# Altium footprint library XCVR_MAX-M10S-00B.PcbLib: 1 footprints
Each footprint in its own frame and in the unit in brackets; x right, y up, seen from the top. Pads: shape width x height; smd on the part's side, far side on the other; paste and mask are expansions set on the pad; w line width, h text height; cw(c..) or ccw(c..) is an arc to the next point about the centre after c.
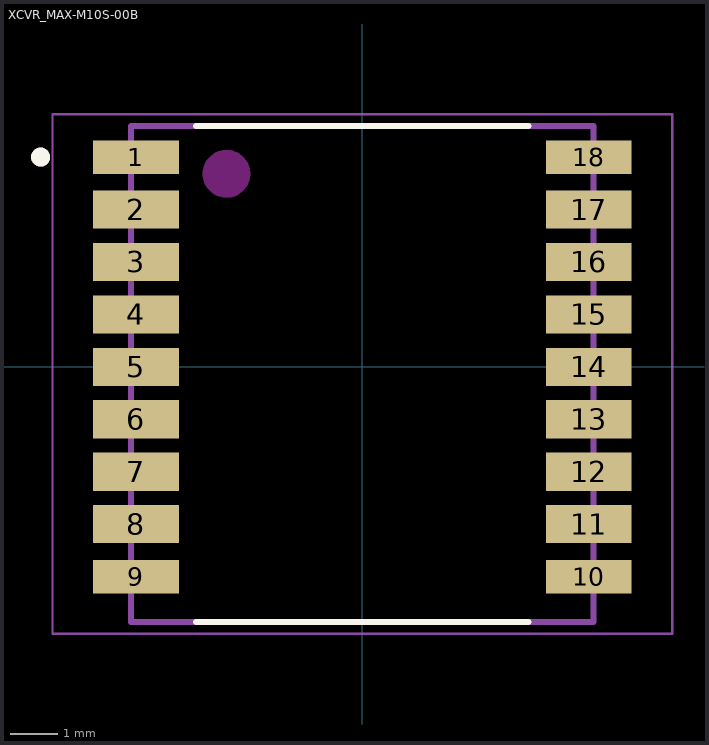
[diagram p0: the footprint, top view; thin cyan lines are the x and y axes]

## XCVR_MAX-M10S-00B [mm]
height 2.7
pads (18):
  rect 1.8x0.7 smd paste-2: 1(-4.75,4.4) 9(-4.75,-4.4) 10(4.75,-4.4) 18(4.75,4.4)
  rect 1.8x0.8 smd paste-2: 2(-4.75,3.3) 3(-4.75,2.2) 4(-4.75,1.1) 5(-4.75,0) 6(-4.75,-1.1) 7(-4.75,-2.2) 8(-4.75,-3.3) 11(4.75,-3.3) 12(4.75,-2.2) 13(4.75,-1.1) 14(4.75,0) 15(4.75,1.1) 16(4.75,2.2) 17(4.75,3.3)
Top Overlay:
  circle w0.2: c-6.75,4.4 r0.1
  lines w0.127: -3.49,-5.35 3.49,-5.35 ; -3.49,5.05 3.49,5.05
Top Paste:
  region: -4.85,0.3 -3.95,0.3 -3.95,-0.3 -4.85,-0.3 -4.85,-0.4 -6.25,-0.4 -6.25,0.4 -4.85,0.4
  region: -4.85,4.65 -3.95,4.65 -3.95,4.15 -4.85,4.15 -4.85,4.05 -6.25,4.05 -6.25,4.75 -4.85,4.75
  region: 6.25,4.05 4.85,4.05 4.85,4.15 3.95,4.15 3.95,4.65 4.85,4.65 4.85,4.75 6.25,4.75
  region: -4.85,3.6 -3.95,3.6 -3.95,3 -4.85,3 -4.85,2.9 -6.25,2.9 -6.25,3.7 -4.85,3.7
  region: -4.85,2.5 -3.95,2.5 -3.95,1.9 -4.85,1.9 -4.85,1.8 -6.25,1.8 -6.25,2.6 -4.85,2.6
  region: -4.85,1.4 -3.95,1.4 -3.95,0.8 -4.85,0.8 -4.85,0.7 -6.25,0.7 -6.25,1.5 -4.85,1.5
  region: -4.85,-0.8 -3.95,-0.8 -3.95,-1.4 -4.85,-1.4 -4.85,-1.5 -6.25,-1.5 -6.25,-0.7 -4.85,-0.7
  region: -4.85,-1.9 -3.95,-1.9 -3.95,-2.5 -4.85,-2.5 -4.85,-2.6 -6.25,-2.6 -6.25,-1.8 -4.85,-1.8
  region: -4.85,-3 -3.95,-3 -3.95,-3.6 -4.85,-3.6 -4.85,-3.7 -6.25,-3.7 -6.25,-2.9 -4.85,-2.9
  region: 6.25,-0.4 4.85,-0.4 4.85,-0.3 3.95,-0.3 3.95,0.3 4.85,0.3 4.85,0.4 6.25,0.4
  region: 6.25,2.9 4.85,2.9 4.85,3 3.95,3 3.95,3.6 4.85,3.6 4.85,3.7 6.25,3.7
  region: 6.25,1.8 4.85,1.8 4.85,1.9 3.95,1.9 3.95,2.5 4.85,2.5 4.85,2.6 6.25,2.6
  region: 6.25,0.7 4.85,0.7 4.85,0.8 3.95,0.8 3.95,1.4 4.85,1.4 4.85,1.5 6.25,1.5
  region: 6.25,-1.5 4.85,-1.5 4.85,-1.4 3.95,-1.4 3.95,-0.8 4.85,-0.8 4.85,-0.7 6.25,-0.7
  region: 6.25,-2.6 4.85,-2.6 4.85,-2.5 3.95,-2.5 3.95,-1.9 4.85,-1.9 4.85,-1.8 6.25,-1.8
  region: 6.25,-3.7 4.85,-3.7 4.85,-3.6 3.95,-3.6 3.95,-3 4.85,-3 4.85,-2.9 6.25,-2.9
  region: -4.85,-4.15 -3.95,-4.15 -3.95,-4.65 -4.85,-4.65 -4.85,-4.75 -6.25,-4.75 -6.25,-4.05 -4.85,-4.05
  region: 6.25,-4.75 4.85,-4.75 4.85,-4.65 3.95,-4.65 3.95,-4.15 4.85,-4.15 4.85,-4.05 6.25,-4.05
Keep-Out Layer:
  circle w0.5: c-2.85,4.05 r0.25
Mechanical 13:
  circle w0.2: c-6.75,4.4 r0.1
  lines w0.127: -4.85,-5.35 4.85,-5.35 4.85,5.05 -4.85,5.05 -4.85,-5.35
Mechanical 15:
  lines w0.05: -6.5,-5.6 6.5,-5.6 6.5,5.3 -6.5,5.3 -6.5,-5.6
3D body "step_temp.STEP": height 2.7, standoff 0, extent -4.85,-5.35 4.85,5.05